# Altium footprint library SOT.PcbLib: 8 footprints
Each footprint in its own frame and in the unit in brackets; x right, y up, seen from the top. Pads: shape width x height; smd on the part's side, far side on the other; paste and mask are expansions set on the pad; w line width, h text height; cw(c..) or ccw(c..) is an arc to the next point about the centre after c.
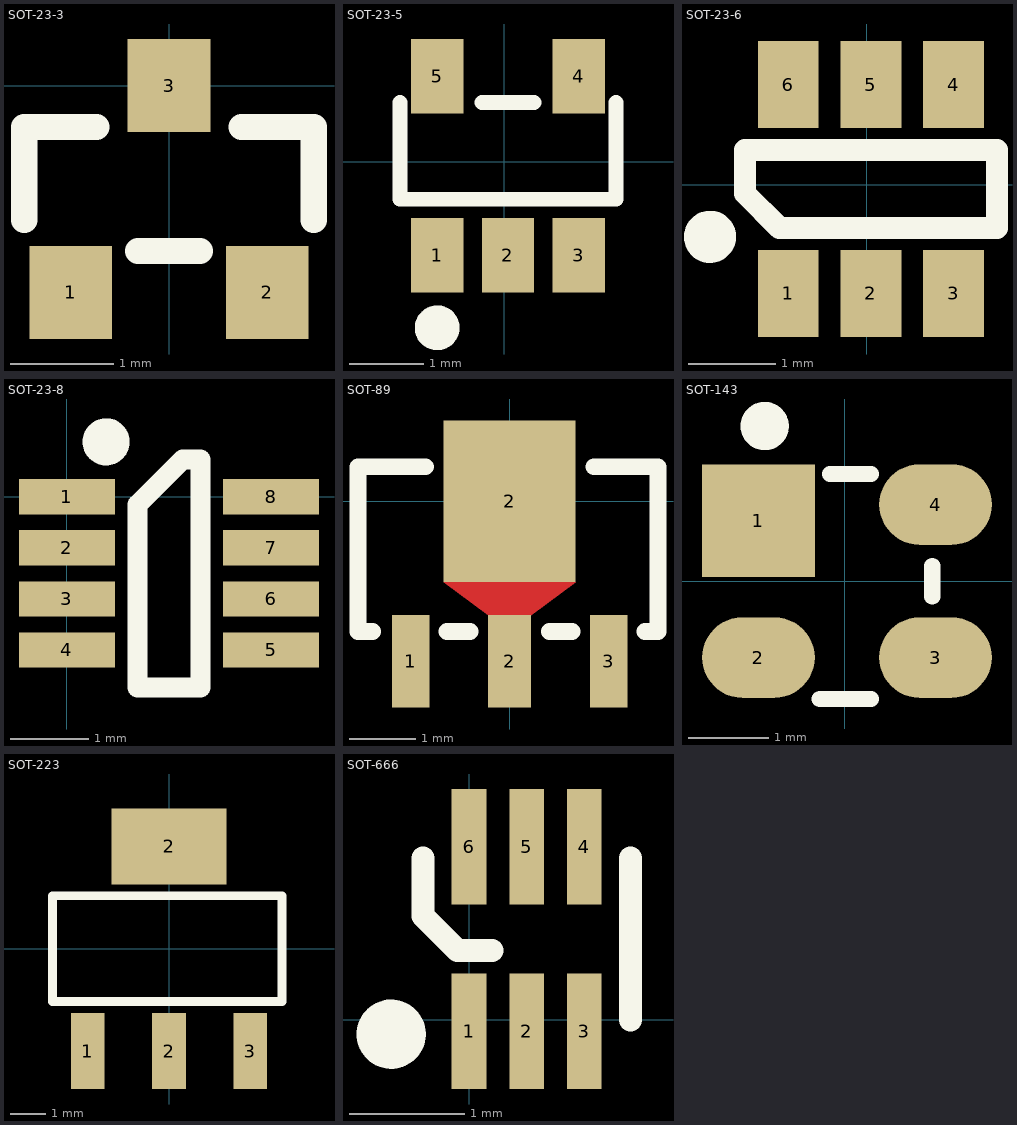
[diagram p0: the footprints below, top view; thin cyan lines are the x and y axes]

## SOT-23-3 [mm]
pads (3):
  rect 0.8x0.9 smd: 1(-0.95,-2) 2(0.95,-2) 3(0,0)
Top Overlay:
  lines w0.254: -1.4,-1.3 -1.4,-0.4 -0.7,-0.4 ; -0.3,-1.6 0.3,-1.6 ; 0.7,-0.4 1.4,-0.4 1.4,-1.3
3D body "User Library-SOT-23-2.STEP": height 1.08, standoff 0, extent -1.5,-2.32 1.5,0.32

## SOT-23-5 [mm]
pads (5):
  rect 0.7x1 smd: 1(-0.9,-1.25) 2(0.05,-1.25) 3(1,-1.25) 4(1,1.15) 5(-0.9,1.15)
Top Overlay:
  circle w0.3: c-0.9,-2.225 r0.15
  lines w0.2: -1.4,0.8 -1.4,-0.5 1.5,-0.5 1.5,0.8 ; -0.3,0.8 0.4,0.8
3D body "User Library-SOT23-5-1.STEP": height 1.3, standoff 0, extent -1.5,-1.5 1.5,1.5

## SOT-23-6 [mm]
pads (6):
  rect 0.7x1 smd: 1(-0.9,-1.25) 2(0.05,-1.25) 3(1,-1.25) 4(1,1.15) 5(0.05,1.15) 6(-0.9,1.15)
Top Overlay:
  circle w0.3: c-1.8,-0.6 r0.15
  lines w0.254: -1.4,-0.1 -1,-0.5 1.5,-0.5 1.5,0.4 -1.4,0.4 -1.4,-0.1
3D body "User Library-SOT23-6-2.STEP": height 1.45, standoff 0, extent -1.45,-1.4 1.45,1.4

## SOT-23-8 [mm]
pads (8):
  rect 1.22x0.45 smd: 1(0,0) 2(0,-0.65) 3(0,-1.3) 4(0,-1.95) 5(2.6,-1.95) 6(2.6,-1.3) 7(2.6,-0.65) 8(2.6,0)
Top Overlay:
  circle w0.3: c0.5,0.7 r0.15
  lines w0.254: 0.9,-2.425 0.9,-0.1 1.475,0.475 1.7,0.475 1.7,-2.425 0.9,-2.425
3D body "User Library-TSOT-23-8.STEP": height 1, standoff 0, extent -0.15,-2.45 2.65,0.45

## SOT-89 [mm]
pads (4):
  rect 0.57x1.4 smd: 1(-1.5,-2.425) 3(1.5,-2.425)
  rect 0.65x1.4 smd: 2(0,-2.425)
  rect 2x2.45 smd: 2(0,0)
Top Layer:
  region: 0.325,-1.725 1,-1.225 -1,-1.225 -0.325,-1.725
Top Overlay:
  lines w0.254: -2.075,-1.975 -2.3,-1.975 -2.3,0.525 -1.275,0.525 ; -0.95,-1.975 -0.6,-1.975 ; 0.6,-1.975 0.95,-1.975 ; 1.275,0.525 2.25,0.525 2.25,-1.975 2.05,-1.975
Top Solder:
  region: -1.1,-1.325 -0.425,-1.825 0.425,-1.825 1.1,-1.325
3D body "SW3dPS-SOT89.STEP": height 1.59, standoff -0.02, extent -2.315,-3.058 2.286,1.192

## SOT-143 [mm]
pads (4):
  rect 1.4x1.4 smd: 1(-1.075,0.75)
  oval 1.4x1 smd: 2(-1.075,-0.95) 3(1.125,-0.95) 4(1.125,0.95)
Top Overlay:
  circle w0.3: c-0.997,1.925 r0.15
  lines w0.2: -0.313,-1.463 0.322,-1.463 ; -0.186,1.331 0.322,1.331 ; 1.084,-0.193 1.084,0.188
3D body "User Library-sot143.STEP": height 1, standoff 0, extent -1.41,-1.135 1.51,1.285

## SOT-223 [mm]
pads (4):
  rect 0.95x2.15 smd: 1(-2.3,-2.9) 2(0,-2.9) 3(2.3,-2.9)
  rect 3.25x2.15 smd: 2(0,2.9)
Top Overlay:
  lines w0.254: -3.3,-1.5 3.2,-1.5 3.2,1.5 -3.3,1.5 -3.3,-1.5
3D body "User Library-SOT223-3.STEP": height 1.7, standoff 0, extent -3.25,-3.5 3.25,3.5

## SOT-666 [mm]
pads (6):
  rect 0.3x1 smd: 1(0,-0.1) 2(0.5,-0.1) 3(1,-0.1) 4(1,1.5) 5(0.5,1.5) 6(0,1.5)
Top Overlay:
  circle w0.3: c-0.675,-0.125 r0.15
  lines w0.2: -0.4,1.4 -0.4,0.9 -0.1,0.6 0.2,0.6 ; 1.4,0 1.4,1.4
3D body "User Library-SOT50P160X60-6.STEP": height 0.6, standoff 0, extent -0.295,-0.1 1.295,1.5